# Altium schematic symbol library TI Power Management DC-DC Controller (External Switch).SchLib: 349 symbols (part 1 of 26)
Pins are listed as number, name and electrical type; pins without a type are passive.

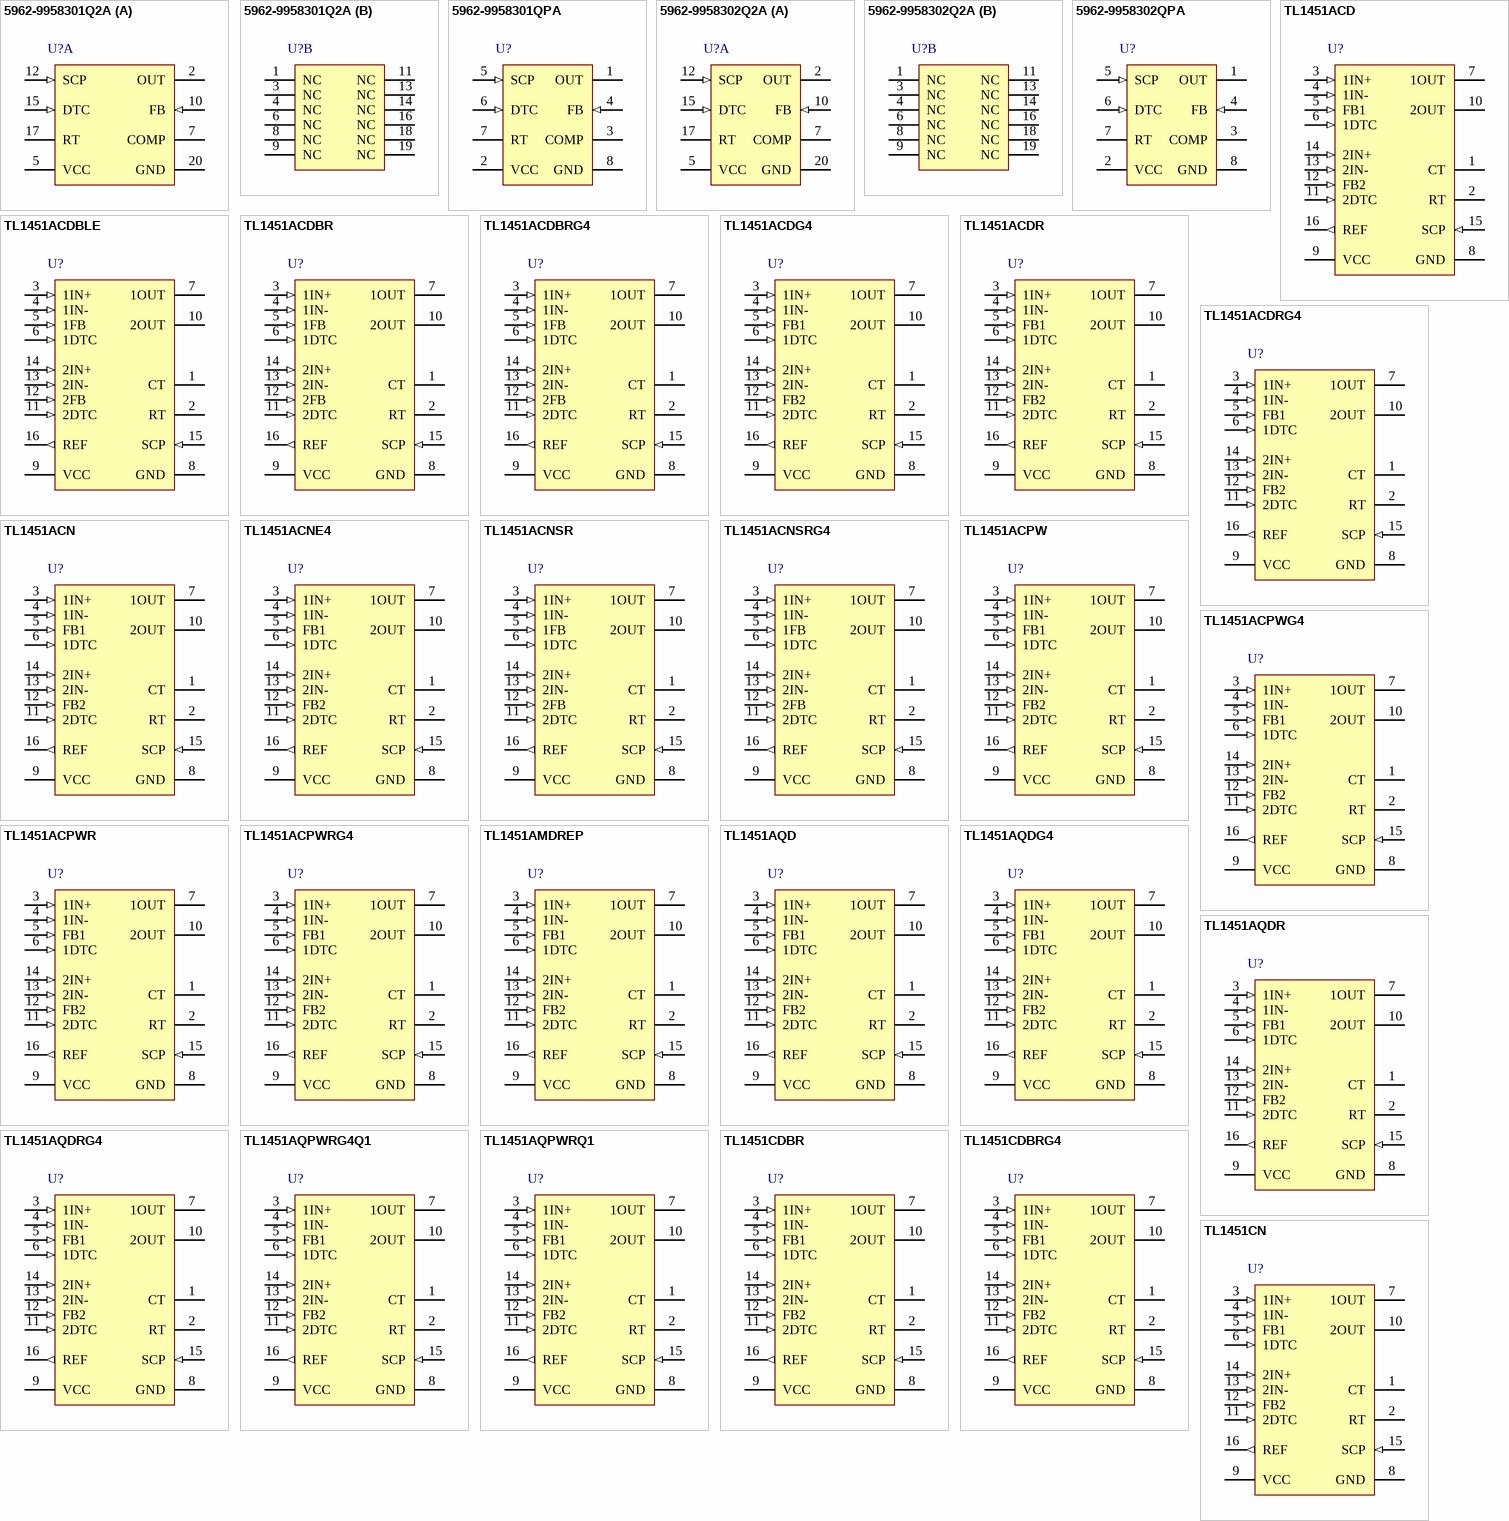
[diagram p0: symbols 5962-9958301Q2A to TL1451CN]

## 5962-9958301Q2A
designator U?
PWM Controller with Wide Input Range, 3.6 to 40 V, -55 to 125 degC, 20-pin LCCC (FK); Manufacturer: Texas Instruments; PartNumber: 5962-9958301Q2A; Duty Cycle(Max)(%): 0; Eco-Plan: TBD; Iout(Max)(A): 3; Regulated Outputs(#): 1; SubFamily: Buck-Boost, Inverting Switching Controller; Switching Frequency(Max)(kHz): 400; Synchronous Rectification: TRUE; Topology: Buck, Boost, Flyback; Vin(Max)(V): 40; Vin(Min)(V): 3.6; Vout(Max)(V): 50; DatasheetVersion: SLVS084F; PackageVersion: revD, Jan-2011; PackageReference: FK20; PackageDescription: 20-Pin Leadless Ceramic Chip Carrier, 1.27 mm Pitch; Vout(Min)(V): 1; Mounting Technology: Surface Mount; Code_JEDEC: MS-004; ComponentLink1Description: Datasheet; ComponentLink1URL: http://www.ti.com/general/docs/lit/getliterature.tsp?genericPartNumber=TL5001M&fileType=pdf; ComponentLink2Description: Package Specification; ComponentLink2URL: http://www.ti.com/litv/pdf/mlcc006d
footprint FK20_N (Leadless Chip Carrier, 20-Leads, Body 8.9x8.9mm, Pitch 1.27mm, IPC Medium Density)
footprint FK20_L (Leadless Chip Carrier, 20-Leads, Body 8.9x8.9mm, Pitch 1.27mm, IPC High Density)
footprint FK20_M (Leadless Chip Carrier, 20-Leads, Body 8.9x8.9mm, Pitch 1.27mm, IPC Low Density)
part A pins: 2 OUT (oc), 5 VCC (power), 7 COMP, 10 FB (in), 12 SCP (in), 15 DTC (in), 17 RT, 20 GND (power)
part B pins: 1 NC, 3 NC, 4 NC, 6 NC, 8 NC, 9 NC, 11 NC, 13 NC, 14 NC, 16 NC, 18 NC, 19 NC

## 5962-9958301QPA
designator U?
PWM Controller with Wide Input Range, 3.6 to 40 V, -55 to 125 degC, 8-pin CDIP (JG); Manufacturer: Texas Instruments; PartNumber: 5962-9958301QPA; Duty Cycle(Max)(%): 0; Eco-Plan: TBD; Iout(Max)(A): 3; Regulated Outputs(#): 1; SubFamily: Buck-Boost, Inverting Switching Controller; Switching Frequency(Max)(kHz): 400; Synchronous Rectification: TRUE; Topology: Buck, Boost, Flyback; Vin(Max)(V): 40; Vin(Min)(V): 3.6; Vout(Max)(V): 50; DatasheetVersion: SLVS084F; PackageVersion: revC, Aug-1996; PackageReference: JG8; PackageDescription: 8-Pin Ceramic Dual-In-Line Package, Row Spacing 7.62 mm, Pitch 2.54 mm; Vout(Min)(V): 1; Mounting Technology: Through Hole; ComponentLink1Description: Datasheet; ComponentLink1URL: http://www.ti.com/general/docs/lit/getliterature.tsp?genericPartNumber=TL5001M&fileType=pdf; ComponentLink2Description: Package Specification; ComponentLink2URL: http://www.ti.com/litv/pdf/mcer001a
footprint JG8 (DIP, 8-Leads, Row Spacing 7.62mm, Pitch 2.54mm, Body 9.6x6.7mm)
pins: 1 OUT (oc), 2 VCC (power), 3 COMP, 4 FB (in), 5 SCP (in), 6 DTC (in), 7 RT, 8 GND (power)

## 5962-9958302Q2A
designator U?
PWM Controller with Wide Input Voltage Range, 100 % Duty Cycle, 3.6 to 40 V, -55 to 125 degC, 20-pin LCCC (FK); Manufacturer: Texas Instruments; PartNumber: 5962-9958302Q2A; Duty Cycle(Max)(%): 100; Eco-Plan: TBD; Iout(Max)(A): 3; Regulated Outputs(#): 1; SubFamily: Buck-Boost, Inverting Switching Controller; Switching Frequency(Max)(kHz): 500; Synchronous Rectification: TRUE; Topology: Buck, Boost; Vin(Max)(V): 40; Vin(Min)(V): 3.6; Vout(Max)(V): 50; DatasheetVersion: SLVS084F; PackageVersion: revD, Jan-2011; PackageReference: FK20; PackageDescription: 20-Pin Leadless Ceramic Chip Carrier, 1.27 mm Pitch; Vout(Min)(V): 1; Mounting Technology: Surface Mount; Code_JEDEC: MS-004; ComponentLink1Description: Datasheet; ComponentLink1URL: http://www.ti.com/general/docs/lit/getliterature.tsp?genericPartNumber=TL5001AM&fileType=pdf; ComponentLink2Description: Package Specification; ComponentLink2URL: http://www.ti.com/litv/pdf/mlcc006d
footprint FK20_N (Leadless Chip Carrier, 20-Leads, Body 8.9x8.9mm, Pitch 1.27mm, IPC Medium Density)
footprint FK20_L (Leadless Chip Carrier, 20-Leads, Body 8.9x8.9mm, Pitch 1.27mm, IPC High Density)
footprint FK20_M (Leadless Chip Carrier, 20-Leads, Body 8.9x8.9mm, Pitch 1.27mm, IPC Low Density)
part A pins: 2 OUT (oc), 5 VCC (power), 7 COMP, 10 FB (in), 12 SCP (in), 15 DTC (in), 17 RT, 20 GND (power)
part B pins: 1 NC, 3 NC, 4 NC, 6 NC, 8 NC, 9 NC, 11 NC, 13 NC, 14 NC, 16 NC, 18 NC, 19 NC

## 5962-9958302QPA
designator U?
PWM Controller with Wide Input Voltage Range, 100 % Duty Cycle, 3.6 to 40 V, -55 to 125 degC, 8-pin CDIP (JG); Manufacturer: Texas Instruments; PartNumber: 5962-9958302QPA; Duty Cycle(Max)(%): 100; Eco-Plan: TBD; Iout(Max)(A): 3; Regulated Outputs(#): 1; SubFamily: Buck-Boost, Inverting Switching Controller; Switching Frequency(Max)(kHz): 500; Synchronous Rectification: TRUE; Topology: Buck, Boost; Vin(Max)(V): 40; Vin(Min)(V): 3.6; Vout(Max)(V): 50; DatasheetVersion: SLVS084F; PackageVersion: revC, Aug-1996; PackageReference: JG8; PackageDescription: 8-Pin Ceramic Dual-In-Line Package, Row Spacing 7.62 mm, Pitch 2.54 mm; Vout(Min)(V): 1; Mounting Technology: Through Hole; ComponentLink1Description: Datasheet; ComponentLink1URL: http://www.ti.com/general/docs/lit/getliterature.tsp?genericPartNumber=TL5001AM&fileType=pdf; ComponentLink2Description: Package Specification; ComponentLink2URL: http://www.ti.com/litv/pdf/mcer001a
footprint JG8 (DIP, 8-Leads, Row Spacing 7.62mm, Pitch 2.54mm, Body 9.6x6.7mm)
pins: 1 OUT (oc), 2 VCC (power), 3 COMP, 4 FB (in), 5 SCP (in), 6 DTC (in), 7 RT, 8 GND (power)

## TL1451ACD
designator U?
Dual Channel Controller with Wide Input Voltage Range, 100 % Duty Cycle, 3.6 to 50 V, -20 to 85 degC, 16-pin SOIC (D), Green (RoHS & no Sb/Br); Manufacturer: Texas Instruments; PartNumber: TL1451ACD; Duty Cycle(Max)(%): 100; Iout(Max)(A): 3; Regulated Outputs(#): 2; SubFamily: Multiple-Output Switching Controller; Switching Frequency(Max)(kHz): 500; Synchronous Rectification: TRUE; Topology: Buck, Boost, Flyback; Vin(Max)(V): 50; Vin(Min)(V): 3.6; Vout(Min)(V): 1; DatasheetVersion: SLVS024E; PackageVersion: revM, Jun-2011; PackageReference: D16; PackageDescription: 16-Pin Plastic Small Outline Integrated Circuit, 9.9 x 3.9 mm, Pitch 1.27 mm Pitch; Supplier 1: Digi-Key; Supplier Part Number 1: 296-13350-5-ND; Eco-Plan: Green (RoHS & no Sb/Br); Iout2(A): 3; Vout(Max)(V): 50; Vout2(Max)(V): 50; Vout2(Min)(V): 1; Mounting Technology: Surface Mount; Code_JEDEC: MS-012AC; ComponentLink1Description: Datasheet; ComponentLink1URL: http://www.ti.com/general/docs/lit/getliterature.tsp?genericPartNumber=TL1451A&fileType=pdf; ComponentLink2Description: Package Specification; ComponentLink2URL: http://www.ti.com/litv/pdf/mpds178g
footprint D16_N (SOIC, 16-Leads, Body 9.9x3.9mm, Pitch 1.27mm, IPC Medium Density)
footprint D16_L (SOIC, 16-Leads, Body 9.9x3.9mm, Pitch 1.27mm, IPC High Density)
footprint D16_M (SOIC, 16-Leads, Body 9.9x3.9mm, Pitch 1.27mm, IPC Low Density)
pins: 1 CT, 2 RT, 3 1IN+ (in), 4 1IN- (in), 5 FB1 (in), 6 1DTC (in), 7 1OUT (oc), 8 GND (power), 9 VCC (power), 10 2OUT (oc), 11 2DTC (in), 12 FB2 (in), 13 2IN- (in), 14 2IN+ (in), 15 SCP (in), 16 REF (out)

## TL1451ACDBLE
designator U?
Dual Channel Controller with Wide Input Voltage Range, 100 % Duty Cycle, 3.6 to 50 V, -20 to 85 degC, 16-pin SSOP (DB); Manufacturer: Texas Instruments; PartNumber: TL1451ACDBLE; Duty Cycle(Max)(%): 100; Iout(Max)(A): 3; Regulated Outputs(#): 2; SubFamily: Multiple-Output Switching Controller; Switching Frequency(Max)(kHz): 500; Synchronous Rectification: TRUE; Topology: Buck, Boost, Flyback; Vin(Max)(V): 50; Vin(Min)(V): 3.6; Vout(Min)(V): 1; DatasheetVersion: SLVS024E; PackageVersion: revE, Dec-2001; PackageReference: DB16; PackageDescription: 16-Pin Plastic Small Outline Package, 6.2 x 5.3 mm Body, 0.65 mm Pitch; Supplier 1: Mouser; Supplier Part Number 1: N/A; Iout2(A): 3; Vout(Max)(V): 50; Vout2(Max)(V): 50; Vout2(Min)(V): 1; Mounting Technology: Surface Mount; Code_JEDEC: MO-150; ComponentLink1Description: Datasheet; ComponentLink1URL: http://www.ti.com/general/docs/lit/getliterature.tsp?genericPartNumber=TL1451A&fileType=pdf; ComponentLink2Description: Package Specification; ComponentLink2URL: http://www.ti.com/litv/pdf/msso002e
footprint DB16_N (SOP, 16-Leads, Body 6.2x5.3mm, Pitch 0.65mm, IPC Medium Density)
footprint DB16_L (SOP, 16-Leads, Body 6.2x5.3mm, Pitch 0.65mm, IPC High Density)
footprint DB16_M (SOP, 16-Leads, Body 6.2x5.3mm, Pitch 0.65mm, IPC Low Density)
pins: 1 CT, 2 RT, 3 1IN+ (in), 4 1IN- (in), 5 1FB (in), 6 1DTC (in), 7 1OUT (oc), 8 GND (power), 9 VCC (power), 10 2OUT (oc), 11 2DTC (in), 12 2FB (in), 13 2IN- (in), 14 2IN+ (in), 15 SCP (in), 16 REF (out)

## TL1451ACDBR
designator U?
Dual Channel Controller with Wide Input Voltage Range, 100 % Duty Cycle, 3.6 to 50 V, -20 to 85 degC, 16-pin SSOP (DB), Green (RoHS & no Sb/Br); Manufacturer: Texas Instruments; PartNumber: TL1451ACDBR; Duty Cycle(Max)(%): 100; Iout(Max)(A): 3; Regulated Outputs(#): 2; SubFamily: Multiple-Output Switching Controller; Switching Frequency(Max)(kHz): 500; Synchronous Rectification: TRUE; Topology: Buck, Boost, Flyback; Vin(Max)(V): 50; Vin(Min)(V): 3.6; Vout(Min)(V): 1; DatasheetVersion: SLVS024E; PackageVersion: revE, Dec-2001; PackageReference: DB16; PackageDescription: 16-Pin Plastic Small Outline Package, 6.2 x 5.3 mm Body, 0.65 mm Pitch; Supplier 1: Digi-Key; Supplier Part Number 1: 296-10133-2-ND; Eco-Plan: Green (RoHS & no Sb/Br); Iout2(A): 3; Vout(Max)(V): 50; Vout2(Max)(V): 50; Vout2(Min)(V): 1; Mounting Technology: Surface Mount; Code_JEDEC: MO-150; ComponentLink1Description: Datasheet; ComponentLink1URL: http://www.ti.com/general/docs/lit/getliterature.tsp?genericPartNumber=TL1451A&fileType=pdf; ComponentLink2Description: Package Specification; ComponentLink2URL: http://www.ti.com/litv/pdf/msso002e
footprint DB16_N (SOP, 16-Leads, Body 6.2x5.3mm, Pitch 0.65mm, IPC Medium Density)
footprint DB16_L (SOP, 16-Leads, Body 6.2x5.3mm, Pitch 0.65mm, IPC High Density)
footprint DB16_M (SOP, 16-Leads, Body 6.2x5.3mm, Pitch 0.65mm, IPC Low Density)
pins: 1 CT, 2 RT, 3 1IN+ (in), 4 1IN- (in), 5 1FB (in), 6 1DTC (in), 7 1OUT (oc), 8 GND (power), 9 VCC (power), 10 2OUT (oc), 11 2DTC (in), 12 2FB (in), 13 2IN- (in), 14 2IN+ (in), 15 SCP (in), 16 REF (out)

## TL1451ACDBRG4
designator U?
Dual Channel Controller with Wide Input Voltage Range, 100 % Duty Cycle, 3.6 to 50 V, -20 to 85 degC, 16-pin SSOP (DB), Green (RoHS & no Sb/Br); Manufacturer: Texas Instruments; PartNumber: TL1451ACDBRG4; Duty Cycle(Max)(%): 100; Iout(Max)(A): 3; Regulated Outputs(#): 2; SubFamily: Multiple-Output Switching Controller; Switching Frequency(Max)(kHz): 500; Synchronous Rectification: TRUE; Topology: Buck, Boost, Flyback"; Vin(Max)(V): 50; Vin(Min)(V): 3.6; Vout(Min)(V): 1; DatasheetVersion: SLVS024E; PackageVersion: revE, Dec-2001; PackageReference: DB16; PackageDescription: 16-Pin Plastic Small Outline Package, 6.2 x 5.3 mm Body, 0.65 mm Pitch; Supplier 1: Digi-Key; Supplier Part Number 1: TL1451ACDBRG4-ND; Eco-Plan: Green (RoHS & no Sb/Br); Iout2(A): 3; Vout(Max)(V): 50; Vout2(Max)(V): 50; Vout2(Min)(V): 1; Mounting Technology: Surface Mount; Code_JEDEC: MO-150; ComponentLink1Description: Datasheet; ComponentLink1URL: http://www.ti.com/general/docs/lit/getliterature.tsp?genericPartNumber=TL1451A&fileType=pdf; ComponentLink2Description: Package Specification; ComponentLink2URL: http://www.ti.com/litv/pdf/msso002e
footprint DB16_N (SOP, 16-Leads, Body 6.2x5.3mm, Pitch 0.65mm, IPC Medium Density)
footprint DB16_L (SOP, 16-Leads, Body 6.2x5.3mm, Pitch 0.65mm, IPC High Density)
footprint DB16_M (SOP, 16-Leads, Body 6.2x5.3mm, Pitch 0.65mm, IPC Low Density)
pins: 1 CT, 2 RT, 3 1IN+ (in), 4 1IN- (in), 5 1FB (in), 6 1DTC (in), 7 1OUT (oc), 8 GND (power), 9 VCC (power), 10 2OUT (oc), 11 2DTC (in), 12 2FB (in), 13 2IN- (in), 14 2IN+ (in), 15 SCP (in), 16 REF (out)

## TL1451ACDG4
designator U?
Dual Channel Controller with Wide Input Voltage Range, 100 % Duty Cycle, 3.6 to 50 V, -20 to 85 degC, 16-pin SOIC (D), Green (RoHS & no Sb/Br); Manufacturer: Texas Instruments; PartNumber: TL1451ACDG4; Duty Cycle(Max)(%): 100; Iout(Max)(A): 3; Regulated Outputs(#): 2; SubFamily: Multiple-Output Switching Controller; Switching Frequency(Max)(kHz): 500; Synchronous Rectification: TRUE; Topology: Buck, Boost, Flyback; Vin(Max)(V): 50; Vin(Min)(V): 3.6; Vout(Min)(V): 1; DatasheetVersion: SLVS024E; PackageVersion: revM, Jun-2011; PackageReference: D16; PackageDescription: 16-Pin Plastic Small Outline Integrated Circuit, 9.9 x 3.9 mm, Pitch 1.27 mm Pitch; Supplier 1: Digi-Key; Supplier Part Number 1: TL1451ACDG4-ND; Eco-Plan: Green (RoHS & no Sb/Br); Iout2(A): 3; Vout(Max)(V): 50; Vout2(Max)(V): 50; Vout2(Min)(V): 1; Mounting Technology: Surface Mount; Code_JEDEC: MS-012AC; ComponentLink1Description: Datasheet; ComponentLink1URL: http://www.ti.com/general/docs/lit/getliterature.tsp?genericPartNumber=TL1451A&fileType=pdf; ComponentLink2Description: Package Specification; ComponentLink2URL: http://www.ti.com/litv/pdf/mpds178g
footprint D16_N (SOIC, 16-Leads, Body 9.9x3.9mm, Pitch 1.27mm, IPC Medium Density)
footprint D16_L (SOIC, 16-Leads, Body 9.9x3.9mm, Pitch 1.27mm, IPC High Density)
footprint D16_M (SOIC, 16-Leads, Body 9.9x3.9mm, Pitch 1.27mm, IPC Low Density)
pins: 1 CT, 2 RT, 3 1IN+ (in), 4 1IN- (in), 5 FB1 (in), 6 1DTC (in), 7 1OUT (oc), 8 GND (power), 9 VCC (power), 10 2OUT (oc), 11 2DTC (in), 12 FB2 (in), 13 2IN- (in), 14 2IN+ (in), 15 SCP (in), 16 REF (out)

## TL1451ACDR
designator U?
Dual Channel Controller with Wide Input Voltage Range, 100 % Duty Cycle, 3.6 to 50 V, -20 to 85 degC, 16-pin SOIC (D), Green (RoHS & no Sb/Br); Manufacturer: Texas Instruments; PartNumber: TL1451ACDR; Duty Cycle(Max)(%): 100; Iout(Max)(A): 3; Regulated Outputs(#): 2; SubFamily: Multiple-Output Switching Controller; Switching Frequency(Max)(kHz): 500; Synchronous Rectification: TRUE; Topology: Buck, Boost, Flyback"; Vin(Max)(V): 50; Vin(Min)(V): 3.6; Vout(Min)(V): 1; DatasheetVersion: SLVS024E; PackageVersion: revM, Jun-2011; PackageReference: D16; PackageDescription: 16-Pin Plastic Small Outline Integrated Circuit, 9.9 x 3.9 mm, Pitch 1.27 mm Pitch; Supplier 1: Digi-Key; Supplier Part Number 1: TL1451ACDR-ND; Eco-Plan: Green (RoHS & no Sb/Br); Iout2(A): 3; Vout(Max)(V): 50; Vout2(Max)(V): 50; Vout2(Min)(V): 1; Mounting Technology: Surface Mount; Code_JEDEC: MS-012AC; ComponentLink1Description: Datasheet; ComponentLink1URL: http://www.ti.com/general/docs/lit/getliterature.tsp?genericPartNumber=TL1451A&fileType=pdf; ComponentLink2Description: Package Specification; ComponentLink2URL: http://www.ti.com/litv/pdf/mpds178g
footprint D16_N (SOIC, 16-Leads, Body 9.9x3.9mm, Pitch 1.27mm, IPC Medium Density)
footprint D16_L (SOIC, 16-Leads, Body 9.9x3.9mm, Pitch 1.27mm, IPC High Density)
footprint D16_M (SOIC, 16-Leads, Body 9.9x3.9mm, Pitch 1.27mm, IPC Low Density)
pins: 1 CT, 2 RT, 3 1IN+ (in), 4 1IN- (in), 5 FB1 (in), 6 1DTC (in), 7 1OUT (oc), 8 GND (power), 9 VCC (power), 10 2OUT (oc), 11 2DTC (in), 12 FB2 (in), 13 2IN- (in), 14 2IN+ (in), 15 SCP (in), 16 REF (out)

## TL1451ACDRG4
designator U?
Dual Channel Controller with Wide Input Voltage Range, 100 % Duty Cycle, 3.6 to 50 V, -20 to 85 degC, 16-pin SOIC (D), Green (RoHS & no Sb/Br); Manufacturer: Texas Instruments; PartNumber: TL1451ACDRG4; Duty Cycle(Max)(%): 100; Iout(Max)(A): 3; Regulated Outputs(#): 2; SubFamily: Multiple-Output Switching Controller; Switching Frequency(Max)(kHz): 500; Synchronous Rectification: TRUE; Topology: Buck, Boost, Flyback; Vin(Max)(V): 50; Vin(Min)(V): 3.6; Vout(Min)(V): 1; DatasheetVersion: SLVS024E; PackageVersion: revM, Jun-2011; PackageReference: D16; PackageDescription: 16-Pin Plastic Small Outline Integrated Circuit, 9.9 x 3.9 mm, Pitch 1.27 mm Pitch; Supplier 1: Digi-Key; Supplier Part Number 1: TL1451ACDRG4-ND; Eco-Plan: Green (RoHS & no Sb/Br); Iout2(A): 3; Vout(Max)(V): 50; Vout2(Max)(V): 50; Vout2(Min)(V): 1; Mounting Technology: Surface Mount; Code_JEDEC: MS-012AC; ComponentLink1Description: Datasheet; ComponentLink1URL: http://www.ti.com/general/docs/lit/getliterature.tsp?genericPartNumber=TL1451A&fileType=pdf; ComponentLink2Description: Package Specification; ComponentLink2URL: http://www.ti.com/litv/pdf/mpds178g
footprint D16_N (SOIC, 16-Leads, Body 9.9x3.9mm, Pitch 1.27mm, IPC Medium Density)
footprint D16_L (SOIC, 16-Leads, Body 9.9x3.9mm, Pitch 1.27mm, IPC High Density)
footprint D16_M (SOIC, 16-Leads, Body 9.9x3.9mm, Pitch 1.27mm, IPC Low Density)
pins: 1 CT, 2 RT, 3 1IN+ (in), 4 1IN- (in), 5 FB1 (in), 6 1DTC (in), 7 1OUT (oc), 8 GND (power), 9 VCC (power), 10 2OUT (oc), 11 2DTC (in), 12 FB2 (in), 13 2IN- (in), 14 2IN+ (in), 15 SCP (in), 16 REF (out)

## TL1451ACN
designator U?
Dual Channel Controller with Wide Input Voltage Range, 100 % Duty Cycle, 3.6 to 50 V, -20 to 85 degC, 16-pin PDIP (N), Pb-Free (RoHS); Manufacturer: Texas Instruments; PartNumber: TL1451ACN; Duty Cycle(Max)(%): 100; Iout(Max)(A): 3; Regulated Outputs(#): 2; SubFamily: Multiple-Output Switching Controller; Switching Frequency(Max)(kHz): 500; Synchronous Rectification: TRUE; Topology: Buck, Boost, Flyback; Vin(Max)(V): 50; Vin(Min)(V): 3.6; Vout(Min)(V): 1; DatasheetVersion: SLVS024E; PackageVersion: revE, Dec-2002; PackageReference: N16; PackageDescription: 16-Pin Plastic Dual-In-Line Package, Row Spacing 7.62 mm, Pitch 2.54 mm; Supplier 1: Digi-Key; Supplier Part Number 1: 296-12197-5-ND; Eco-Plan: Pb-Free (RoHS); Iout2(A): 3; Vout(Max)(V): 50; Vout2(Max)(V): 50; Vout2(Min)(V): 1; Mounting Technology: Through Hole; Code_JEDEC: MS-001*; ComponentLink1Description: Datasheet; ComponentLink1URL: http://www.ti.com/general/docs/lit/getliterature.tsp?genericPartNumber=TL1451A&fileType=pdf; ComponentLink2Description: Package Specification; ComponentLink2URL: http://www.ti.com/litv/pdf/mpdi002c
footprint N16 (DIP, 16-Leads, Row Spacing 7.62mm, Pitch 2.54mm, Body 19.3x6.4mm)
pins: 1 CT, 2 RT, 3 1IN+ (in), 4 1IN- (in), 5 FB1 (in), 6 1DTC (in), 7 1OUT (oc), 8 GND (power), 9 VCC (power), 10 2OUT (oc), 11 2DTC (in), 12 FB2 (in), 13 2IN- (in), 14 2IN+ (in), 15 SCP (in), 16 REF (out)

## TL1451ACNE4
designator U?
Dual Channel Controller with Wide Input Voltage Range, 100 % Duty Cycle, 3.6 to 50 V, -20 to 85 degC, 16-pin PDIP (N), Pb-Free (RoHS); Manufacturer: Texas Instruments; PartNumber: TL1451ACNE4; Duty Cycle(Max)(%): 100; Iout(Max)(A): 3; Regulated Outputs(#): 2; SubFamily: Multiple-Output Switching Controller; Switching Frequency(Max)(kHz): 500; Synchronous Rectification: TRUE; Topology: Buck, Boost, Flyback"; Vin(Max)(V): 50; Vin(Min)(V): 3.6; Vout(Min)(V): 1; DatasheetVersion: SLVS024E; PackageVersion: revE, Dec-2002; PackageReference: N16; PackageDescription: 16-Pin Plastic Dual-In-Line Package, Row Spacing 7.62 mm, Pitch 2.54 mm; Supplier 1: Digi-Key; Supplier Part Number 1: TL1451ACNE4-ND; Eco-Plan: Pb-Free (RoHS); Iout2(A): 3; Vout(Max)(V): 50; Vout2(Max)(V): 50; Vout2(Min)(V): 1; Mounting Technology: Through Hole; Code_JEDEC: MS-001*; ComponentLink1Description: Datasheet; ComponentLink1URL: http://www.ti.com/general/docs/lit/getliterature.tsp?genericPartNumber=TL1451A&fileType=pdf; ComponentLink2Description: Package Specification; ComponentLink2URL: http://www.ti.com/litv/pdf/mpdi002c
footprint N16 (DIP, 16-Leads, Row Spacing 7.62mm, Pitch 2.54mm, Body 19.3x6.4mm)
pins: 1 CT, 2 RT, 3 1IN+ (in), 4 1IN- (in), 5 FB1 (in), 6 1DTC (in), 7 1OUT (oc), 8 GND (power), 9 VCC (power), 10 2OUT (oc), 11 2DTC (in), 12 FB2 (in), 13 2IN- (in), 14 2IN+ (in), 15 SCP (in), 16 REF (out)

## TL1451ACNSR
designator U?
Dual Channel Controller with Wide Input Voltage Range, 100 % Duty Cycle, 3.6 to 50 V, -20 to 85 degC, 16-pin SO (NS), Green (RoHS & no Sb/Br); Manufacturer: Texas Instruments; PartNumber: TL1451ACNSR; Duty Cycle(Max)(%): 100; Iout(Max)(A): 3; Regulated Outputs(#): 2; SubFamily: Multiple-Output Switching Controller; Switching Frequency(Max)(kHz): 500; Synchronous Rectification: TRUE; Topology: Buck, Boost, Flyback; Vin(Max)(V): 50; Vin(Min)(V): 3.6; Vout(Min)(V): 1; DatasheetVersion: SLVS024E; PackageVersion: revC, Mar-2003; PackageReference: NS16; PackageDescription: 16-Pin Plastic Small Outline Package, 10.2 x 5.3 mm, Pitch 1.27 mm Pitch; Supplier 1: Digi-Key; Supplier Part Number 1: 296-10134-2-ND; Eco-Plan: Green (RoHS & no Sb/Br); Iout2(A): 3; Vout(Max)(V): 50; Vout2(Max)(V): 50; Vout2(Min)(V): 1; Mounting Technology: Surface Mount; ComponentLink1Description: Datasheet; ComponentLink1URL: http://www.ti.com/general/docs/lit/getliterature.tsp?genericPartNumber=TL1451A&fileType=pdf; ComponentLink2Description: Package Specification; ComponentLink2URL: http://www.ti.com/litv/pdf/msop002a
footprint NS16_N (SOP, 16-Leads, Body 10.2x5.3mm, Pitch 1.27mm, IPC Medium Density)
footprint NS16_L (SOP, 16-Leads, Body 10.2x5.3mm, Pitch 1.27mm, IPC High Density)
footprint NS16_M (SOP, 16-Leads, Body 10.2x5.3mm, Pitch 1.27mm, IPC Low Density)
pins: 1 CT, 2 RT, 3 1IN+ (in), 4 1IN- (in), 5 1FB (in), 6 1DTC (in), 7 1OUT (oc), 8 GND (power), 9 VCC (power), 10 2OUT (oc), 11 2DTC (in), 12 2FB (in), 13 2IN- (in), 14 2IN+ (in), 15 SCP (in), 16 REF (out)

## TL1451ACNSRG4
designator U?
Dual Channel Controller with Wide Input Voltage Range, 100 % Duty Cycle, 3.6 to 50 V, -20 to 85 degC, 16-pin SO (NS), Green (RoHS & no Sb/Br); Manufacturer: Texas Instruments; PartNumber: TL1451ACNSRG4; Duty Cycle(Max)(%): 100; Iout(Max)(A): 3; Regulated Outputs(#): 2; SubFamily: Multiple-Output Switching Controller; Switching Frequency(Max)(kHz): 500; Synchronous Rectification: TRUE; Topology: Buck, Boost, Flyback"; Vin(Max)(V): 50; Vin(Min)(V): 3.6; Vout(Min)(V): 1; DatasheetVersion: SLVS024E; PackageVersion: revC, Mar-2003; PackageReference: NS16; PackageDescription: 16-Pin Plastic Small Outline Package, 10.2 x 5.3 mm, Pitch 1.27 mm Pitch; Supplier 1: Digi-Key; Supplier Part Number 1: TL1451ACNSRG4-ND; Eco-Plan: Green (RoHS & no Sb/Br); Iout2(A): 3; Vout(Max)(V): 50; Vout2(Max)(V): 50; Vout2(Min)(V): 1; Mounting Technology: Surface Mount; ComponentLink1Description: Datasheet; ComponentLink1URL: http://www.ti.com/general/docs/lit/getliterature.tsp?genericPartNumber=TL1451A&fileType=pdf; ComponentLink2Description: Package Specification; ComponentLink2URL: http://www.ti.com/litv/pdf/msop002a
footprint NS16_N (SOP, 16-Leads, Body 10.2x5.3mm, Pitch 1.27mm, IPC Medium Density)
footprint NS16_L (SOP, 16-Leads, Body 10.2x5.3mm, Pitch 1.27mm, IPC High Density)
footprint NS16_M (SOP, 16-Leads, Body 10.2x5.3mm, Pitch 1.27mm, IPC Low Density)
pins: 1 CT, 2 RT, 3 1IN+ (in), 4 1IN- (in), 5 1FB (in), 6 1DTC (in), 7 1OUT (oc), 8 GND (power), 9 VCC (power), 10 2OUT (oc), 11 2DTC (in), 12 2FB (in), 13 2IN- (in), 14 2IN+ (in), 15 SCP (in), 16 REF (out)

## TL1451ACPW
designator U?
Dual Channel Controller with Wide Input Voltage Range, 100 % Duty Cycle, 3.6 to 50 V, -20 to 85 degC, 16-pin TSSOP (PW), Green (RoHS & no Sb/Br); Manufacturer: Texas Instruments; PartNumber: TL1451ACPW; Duty Cycle(Max)(%): 100; Iout(Max)(A): 3; Regulated Outputs(#): 2; SubFamily: Multiple-Output Switching Controller; Switching Frequency(Max)(kHz): 500; Synchronous Rectification: TRUE; Topology: Buck, Boost, Flyback"; Vin(Max)(V): 50; Vin(Min)(V): 3.6; Vout(Min)(V): 1; DatasheetVersion: SLVS024E; PackageVersion: revG, Feb-2011; PackageReference: PW16; PackageDescription: 16-Pin Plastic Thin Small Outline Package 5 x 4.4 mm Body ,0.65 mm Pitch; Supplier 1: Digi-Key; Supplier Part Number 1: 296-34263-5-ND; Eco-Plan: Green (RoHS & no Sb/Br); Iout2(A): 3; Vout(Max)(V): 50; Vout2(Max)(V): 50; Vout2(Min)(V): 1; Mounting Technology: Surface Mount; Code_JEDEC: MO-153; ComponentLink1Description: Datasheet; ComponentLink1URL: http://www.ti.com/general/docs/lit/getliterature.tsp?genericPartNumber=TL1451A&fileType=pdf; ComponentLink2Description: Package Specification; ComponentLink2URL: http://www.ti.com/litv/pdf/mpds361
footprint PW16_N (TSOP, 16-Leads, Body 5x4.4mm, Pitch 0.65mm, IPC Medium Density)
footprint PW16_L (TSOP, 16-Leads, Body 5x4.4mm, Pitch 0.65mm, IPC High Density)
footprint PW16_M (TSOP, 16-Leads, Body 5x4.4mm, Pitch 0.65mm, IPC Low Density)
pins: 1 CT, 2 RT, 3 1IN+ (in), 4 1IN- (in), 5 FB1 (in), 6 1DTC (in), 7 1OUT (oc), 8 GND (power), 9 VCC (power), 10 2OUT (oc), 11 2DTC (in), 12 FB2 (in), 13 2IN- (in), 14 2IN+ (in), 15 SCP (in), 16 REF (out)

## TL1451ACPWG4
designator U?
Dual Channel Controller with Wide Input Voltage Range, 100 % Duty Cycle, 3.6 to 50 V, -20 to 85 degC, 16-pin TSSOP (PW), Green (RoHS & no Sb/Br); Manufacturer: Texas Instruments; PartNumber: TL1451ACPWG4; Duty Cycle(Max)(%): 100; Iout(Max)(A): 3; Regulated Outputs(#): 2; SubFamily: Multiple-Output Switching Controller; Switching Frequency(Max)(kHz): 500; Synchronous Rectification: TRUE; Topology: Buck, Boost, Flyback; Vin(Max)(V): 50; Vin(Min)(V): 3.6; Vout(Min)(V): 1; DatasheetVersion: SLVS024E; PackageVersion: revG, Feb-2011; PackageReference: PW16; PackageDescription: 16-Pin Plastic Thin Small Outline Package 5 x 4.4 mm Body ,0.65 mm Pitch; Supplier 1: Digi-Key; Supplier Part Number 1: TL1451ACPWG4-ND; Eco-Plan: Green (RoHS & no Sb/Br); Iout2(A): 3; Vout(Max)(V): 50; Vout2(Max)(V): 50; Vout2(Min)(V): 1; Mounting Technology: Surface Mount; Code_JEDEC: MO-153; ComponentLink1Description: Datasheet; ComponentLink1URL: http://www.ti.com/general/docs/lit/getliterature.tsp?genericPartNumber=TL1451A&fileType=pdf; ComponentLink2Description: Package Specification; ComponentLink2URL: http://www.ti.com/litv/pdf/mpds361
footprint PW16_N (TSOP, 16-Leads, Body 5x4.4mm, Pitch 0.65mm, IPC Medium Density)
footprint PW16_L (TSOP, 16-Leads, Body 5x4.4mm, Pitch 0.65mm, IPC High Density)
footprint PW16_M (TSOP, 16-Leads, Body 5x4.4mm, Pitch 0.65mm, IPC Low Density)
pins: 1 CT, 2 RT, 3 1IN+ (in), 4 1IN- (in), 5 FB1 (in), 6 1DTC (in), 7 1OUT (oc), 8 GND (power), 9 VCC (power), 10 2OUT (oc), 11 2DTC (in), 12 FB2 (in), 13 2IN- (in), 14 2IN+ (in), 15 SCP (in), 16 REF (out)

## TL1451ACPWR
designator U?
Dual Channel Controller with Wide Input Voltage Range, 100 % Duty Cycle, 3.6 to 50 V, -20 to 85 degC, 16-pin TSSOP (PW), Green (RoHS & no Sb/Br); Manufacturer: Texas Instruments; PartNumber: TL1451ACPWR; Duty Cycle(Max)(%): 100; Iout(Max)(A): 3; Regulated Outputs(#): 2; SubFamily: Multiple-Output Switching Controller; Switching Frequency(Max)(kHz): 500; Synchronous Rectification: TRUE; Topology: Buck, Boost, Flyback; Vin(Max)(V): 50; Vin(Min)(V): 3.6; Vout(Min)(V): 1; DatasheetVersion: SLVS024E; PackageVersion: revG, Feb-2011; PackageReference: PW16; PackageDescription: 16-Pin Plastic Thin Small Outline Package 5 x 4.4 mm Body ,0.65 mm Pitch; Supplier 1: Digi-Key; Supplier Part Number 1: 296-10135-2-ND; Eco-Plan: Green (RoHS & no Sb/Br); Iout2(A): 3; Vout(Max)(V): 50; Vout2(Max)(V): 50; Vout2(Min)(V): 1; Mounting Technology: Surface Mount; Code_JEDEC: MO-153; ComponentLink1Description: Datasheet; ComponentLink1URL: http://www.ti.com/general/docs/lit/getliterature.tsp?genericPartNumber=TL1451A&fileType=pdf; ComponentLink2Description: Package Specification; ComponentLink2URL: http://www.ti.com/litv/pdf/mpds361
footprint PW16_N (TSOP, 16-Leads, Body 5x4.4mm, Pitch 0.65mm, IPC Medium Density)
footprint PW16_L (TSOP, 16-Leads, Body 5x4.4mm, Pitch 0.65mm, IPC High Density)
footprint PW16_M (TSOP, 16-Leads, Body 5x4.4mm, Pitch 0.65mm, IPC Low Density)
pins: 1 CT, 2 RT, 3 1IN+ (in), 4 1IN- (in), 5 FB1 (in), 6 1DTC (in), 7 1OUT (oc), 8 GND (power), 9 VCC (power), 10 2OUT (oc), 11 2DTC (in), 12 FB2 (in), 13 2IN- (in), 14 2IN+ (in), 15 SCP (in), 16 REF (out)

## TL1451ACPWRG4
designator U?
Dual Channel Controller with Wide Input Voltage Range, 100 % Duty Cycle, 3.6 to 50 V, -20 to 85 degC, 16-pin TSSOP (PW), Green (RoHS & no Sb/Br); Manufacturer: Texas Instruments; PartNumber: TL1451ACPWRG4; Duty Cycle(Max)(%): 100; Iout(Max)(A): 3; Regulated Outputs(#): 2; SubFamily: Multiple-Output Switching Controller; Switching Frequency(Max)(kHz): 500; Synchronous Rectification: TRUE; Topology: Buck, Boost, Flyback"; Vin(Max)(V): 50; Vin(Min)(V): 3.6; Vout(Min)(V): 1; DatasheetVersion: SLVS024E; PackageVersion: revG, Feb-2011; PackageReference: PW16; PackageDescription: 16-Pin Plastic Thin Small Outline Package 5 x 4.4 mm Body ,0.65 mm Pitch; Supplier 1: Digi-Key; Supplier Part Number 1: TL1451ACPWRG4-ND; Eco-Plan: Green (RoHS & no Sb/Br); Iout2(A): 3; Vout(Max)(V): 50; Vout2(Max)(V): 50; Vout2(Min)(V): 1; Mounting Technology: Surface Mount; Code_JEDEC: MO-153; ComponentLink1Description: Datasheet; ComponentLink1URL: http://www.ti.com/general/docs/lit/getliterature.tsp?genericPartNumber=TL1451A&fileType=pdf; ComponentLink2Description: Package Specification; ComponentLink2URL: http://www.ti.com/litv/pdf/mpds361
footprint PW16_N (TSOP, 16-Leads, Body 5x4.4mm, Pitch 0.65mm, IPC Medium Density)
footprint PW16_L (TSOP, 16-Leads, Body 5x4.4mm, Pitch 0.65mm, IPC High Density)
footprint PW16_M (TSOP, 16-Leads, Body 5x4.4mm, Pitch 0.65mm, IPC Low Density)
pins: 1 CT, 2 RT, 3 1IN+ (in), 4 1IN- (in), 5 FB1 (in), 6 1DTC (in), 7 1OUT (oc), 8 GND (power), 9 VCC (power), 10 2OUT (oc), 11 2DTC (in), 12 FB2 (in), 13 2IN- (in), 14 2IN+ (in), 15 SCP (in), 16 REF (out)

## TL1451AMDREP
designator U?
Enhanced Product Dual Pulse-Width-Modulation Control Circuit, 100 % Duty Cycle, 3.6 to 50 V, -55 to 125 degC, 16-pin SOIC (D), Green (RoHS & no Sb/Br); Manufacturer: Texas Instruments; PartNumber: TL1451AMDREP; Duty Cycle(Max)(%): 100; Iout(Max)(A): 3; Regulated Outputs(#): 2; SubFamily: Multiple-Output Switching Controller; Switching Frequency(Max)(kHz): 500; Topology: Buck, Boost, Flyback; Vin(Max)(V): 50; Vin(Min)(V): 3.6; Vout(Min)(V): 1; DatasheetVersion: SLVS614; PackageVersion: revM, Jun-2011; PackageReference: D16; PackageDescription: 16-Pin Plastic Small Outline Integrated Circuit, 9.9 x 3.9 mm, Pitch 1.27 mm Pitch; Supplier 1: Digi-Key; Supplier Part Number 1: 296-19511-2-ND; Eco-Plan: Green (RoHS & no Sb/Br); Iout2(A): 3; Vout(Max)(V): 50; Vout2(Max)(V): 50; Vout2(Min)(V): 1; Mounting Technology: Surface Mount; Code_JEDEC: MS-012AC; ComponentLink1Description: Datasheet; ComponentLink1URL: http://www.ti.com/general/docs/lit/getliterature.tsp?genericPartNumber=TL1451A-EP&fileType=pdf; ComponentLink2Description: Package Specification; ComponentLink2URL: http://www.ti.com/litv/pdf/mpds178g
footprint D16_N (SOIC, 16-Leads, Body 9.9x3.9mm, Pitch 1.27mm, IPC Medium Density)
footprint D16_L (SOIC, 16-Leads, Body 9.9x3.9mm, Pitch 1.27mm, IPC High Density)
footprint D16_M (SOIC, 16-Leads, Body 9.9x3.9mm, Pitch 1.27mm, IPC Low Density)
pins: 1 CT, 2 RT, 3 1IN+ (in), 4 1IN- (in), 5 FB1 (in), 6 1DTC (in), 7 1OUT (oc), 8 GND (power), 9 VCC (power), 10 2OUT (oc), 11 2DTC (in), 12 FB2 (in), 13 2IN- (in), 14 2IN+ (in), 15 SCP (in), 16 REF (out)

## TL1451AQD
designator U?
Dual Channel Controller with Wide Input Voltage Range, 100 % Duty Cycle, 3.6 to 50 V, -40 to 125 degC, 16-pin SOIC (D), Green (RoHS & no Sb/Br); Manufacturer: Texas Instruments; PartNumber: TL1451AQD; Duty Cycle(Max)(%): 100; Eco-Plan: TBD; Iout(Max)(A): 3; Regulated Outputs(#): 2; SubFamily: Multiple-Output Switching Controller; Switching Frequency(Max)(kHz): 500; Synchronous Rectification: TRUE; Topology: Buck, Boost, Flyback"; Vin(Max)(V): 50; Vin(Min)(V): 3.6; Vout(Min)(V): 1; DatasheetVersion: SLVS024E; PackageVersion: revM, Jun-2011; PackageReference: D16; PackageDescription: 16-Pin Plastic Small Outline Integrated Circuit, 9.9 x 3.9 mm, Pitch 1.27 mm Pitch; Supplier 1: Digi-Key; Supplier Part Number 1: 296-10137-5-ND; Iout2(A): 3; Vout(Max)(V): 50; Vout2(Max)(V): 50; Vout2(Min)(V): 1; Mounting Technology: Surface Mount; Code_JEDEC: MS-012AC; ComponentLink1Description: Datasheet; ComponentLink1URL: http://www.ti.com/general/docs/lit/getliterature.tsp?genericPartNumber=TL1451A&fileType=pdf; ComponentLink2Description: Package Specification; ComponentLink2URL: http://www.ti.com/litv/pdf/mpds178g
footprint D16_N (SOIC, 16-Leads, Body 9.9x3.9mm, Pitch 1.27mm, IPC Medium Density)
footprint D16_L (SOIC, 16-Leads, Body 9.9x3.9mm, Pitch 1.27mm, IPC High Density)
footprint D16_M (SOIC, 16-Leads, Body 9.9x3.9mm, Pitch 1.27mm, IPC Low Density)
pins: 1 CT, 2 RT, 3 1IN+ (in), 4 1IN- (in), 5 FB1 (in), 6 1DTC (in), 7 1OUT (oc), 8 GND (power), 9 VCC (power), 10 2OUT (oc), 11 2DTC (in), 12 FB2 (in), 13 2IN- (in), 14 2IN+ (in), 15 SCP (in), 16 REF (out)

## TL1451AQDG4
designator U?
Dual Channel Controller with Wide Input Voltage Range, 100 % Duty Cycle, 3.6 to 50 V, 16-pin SOIC (D), Green (RoHS & no Sb/Br); Manufacturer: Texas Instruments; PartNumber: TL1451AQDG4; Duty Cycle(Max)(%): 100; Iout(Max)(A): 3; Regulated Outputs(#): 2; SubFamily: Multiple-Output Switching Controller; Switching Frequency(Max)(kHz): 500; Synchronous Rectification: TRUE; Topology: Buck, Boost, Flyback"; Vin(Max)(V): 50; Vin(Min)(V): 3.6; Vout(Min)(V): 1; DatasheetVersion: SLVS024E; PackageVersion: revM, Jun-2011; PackageReference: D16; PackageDescription: 16-Pin Plastic Small Outline Integrated Circuit, 9.9 x 3.9 mm, Pitch 1.27 mm Pitch; Supplier 1: Digi-Key; Supplier Part Number 1: TL1451AQDG4-ND; Eco-Plan: Green (RoHS & no Sb/Br); Iout2(A): 3; Vout(Max)(V): 50; Vout2(Max)(V): 50; Vout2(Min)(V): 1; Mounting Technology: Surface Mount; Code_JEDEC: MS-012AC; ComponentLink1Description: Datasheet; ComponentLink1URL: http://www.ti.com/general/docs/lit/getliterature.tsp?genericPartNumber=TL1451A&fileType=pdf; ComponentLink2Description: Package Specification; ComponentLink2URL: http://www.ti.com/litv/pdf/mpds178g
footprint D16_N (SOIC, 16-Leads, Body 9.9x3.9mm, Pitch 1.27mm, IPC Medium Density)
footprint D16_L (SOIC, 16-Leads, Body 9.9x3.9mm, Pitch 1.27mm, IPC High Density)
footprint D16_M (SOIC, 16-Leads, Body 9.9x3.9mm, Pitch 1.27mm, IPC Low Density)
pins: 1 CT, 2 RT, 3 1IN+ (in), 4 1IN- (in), 5 FB1 (in), 6 1DTC (in), 7 1OUT (oc), 8 GND (power), 9 VCC (power), 10 2OUT (oc), 11 2DTC (in), 12 FB2 (in), 13 2IN- (in), 14 2IN+ (in), 15 SCP (in), 16 REF (out)

## TL1451AQDR
designator U?
Dual Channel Controller with Wide Input Voltage Range, 100 % Duty Cycle, 3.6 to 50 V, -40 to 125 degC, 16-pin SOIC (D), Green (RoHS & no Sb/Br); Manufacturer: Texas Instruments; PartNumber: TL1451AQDR; Duty Cycle(Max)(%): 100; Eco-Plan: TBD; Iout(Max)(A): 3; Regulated Outputs(#): 2; SubFamily: Multiple-Output Switching Controller; Switching Frequency(Max)(kHz): 500; Synchronous Rectification: TRUE; Topology: Buck, Boost, Flyback"; Vin(Max)(V): 50; Vin(Min)(V): 3.6; Vout(Min)(V): 1; DatasheetVersion: SLVS024E; PackageVersion: revM, Jun-2011; PackageReference: D16; PackageDescription: 16-Pin Plastic Small Outline Integrated Circuit, 9.9 x 3.9 mm, Pitch 1.27 mm Pitch; Supplier 1: Digi-Key; Supplier Part Number 1: TL1451AQDR-ND; Iout2(A): 3; Vout(Max)(V): 50; Vout2(Max)(V): 50; Vout2(Min)(V): 1; Mounting Technology: Surface Mount; Code_JEDEC: MS-012AC; ComponentLink1Description: Datasheet; ComponentLink1URL: http://www.ti.com/general/docs/lit/getliterature.tsp?genericPartNumber=TL1451A&fileType=pdf; ComponentLink2Description: Package Specification; ComponentLink2URL: http://www.ti.com/litv/pdf/mpds178g
footprint D16_N (SOIC, 16-Leads, Body 9.9x3.9mm, Pitch 1.27mm, IPC Medium Density)
footprint D16_L (SOIC, 16-Leads, Body 9.9x3.9mm, Pitch 1.27mm, IPC High Density)
footprint D16_M (SOIC, 16-Leads, Body 9.9x3.9mm, Pitch 1.27mm, IPC Low Density)
pins: 1 CT, 2 RT, 3 1IN+ (in), 4 1IN- (in), 5 FB1 (in), 6 1DTC (in), 7 1OUT (oc), 8 GND (power), 9 VCC (power), 10 2OUT (oc), 11 2DTC (in), 12 FB2 (in), 13 2IN- (in), 14 2IN+ (in), 15 SCP (in), 16 REF (out)

## TL1451AQDRG4
designator U?
Dual Channel Controller with Wide Input Voltage Range, 100 % Duty Cycle, 3.6 to 50 V, 16-pin SOIC (D), Green (RoHS & no Sb/Br); Manufacturer: Texas Instruments; PartNumber: TL1451AQDRG4; Duty Cycle(Max)(%): 100; Iout(Max)(A): 3; Regulated Outputs(#): 2; SubFamily: Multiple-Output Switching Controller; Switching Frequency(Max)(kHz): 500; Synchronous Rectification: TRUE; Topology: Buck, Boost, Flyback"; Vin(Max)(V): 50; Vin(Min)(V): 3.6; Vout(Min)(V): 1; DatasheetVersion: SLVS024E; PackageVersion: revM, Jun-2011; PackageReference: D16; PackageDescription: 16-Pin Plastic Small Outline Integrated Circuit, 9.9 x 3.9 mm, Pitch 1.27 mm Pitch; Supplier 1: Digi-Key; Supplier Part Number 1: TL1451AQDRG4-ND; Eco-Plan: Green (RoHS & no Sb/Br); Iout2(A): 3; Vout(Max)(V): 50; Vout2(Max)(V): 50; Vout2(Min)(V): 1; Mounting Technology: Surface Mount; Code_JEDEC: MS-012AC; ComponentLink1Description: Datasheet; ComponentLink1URL: http://www.ti.com/general/docs/lit/getliterature.tsp?genericPartNumber=TL1451A&fileType=pdf; ComponentLink2Description: Package Specification; ComponentLink2URL: http://www.ti.com/litv/pdf/mpds178g
footprint D16_N (SOIC, 16-Leads, Body 9.9x3.9mm, Pitch 1.27mm, IPC Medium Density)
footprint D16_L (SOIC, 16-Leads, Body 9.9x3.9mm, Pitch 1.27mm, IPC High Density)
footprint D16_M (SOIC, 16-Leads, Body 9.9x3.9mm, Pitch 1.27mm, IPC Low Density)
pins: 1 CT, 2 RT, 3 1IN+ (in), 4 1IN- (in), 5 FB1 (in), 6 1DTC (in), 7 1OUT (oc), 8 GND (power), 9 VCC (power), 10 2OUT (oc), 11 2DTC (in), 12 FB2 (in), 13 2IN- (in), 14 2IN+ (in), 15 SCP (in), 16 REF (out)

## TL1451AQPWRG4Q1
designator U?
Automotive Catalog Dual Pulse-Width-Modulation Control Circuit, 100 % Duty Cycle, -40 to 125 degC, 16-pin TSSOP (PW), Green (RoHS & no Sb/Br); Manufacturer: Texas Instruments; PartNumber: TL1451AQPWRG4Q1; Duty Cycle(Max)(%): 100; Regulated Outputs(#): 2; SubFamily: Multiple-Output Switching Controller; Topology: Buck, Boost, Flyback"; DatasheetVersion: SGLS304A; PackageVersion: revG, Feb-2011; PackageReference: PW16; PackageDescription: 16-Pin Plastic Thin Small Outline Package 5 x 4.4 mm Body ,0.65 mm Pitch; Supplier 1: Digi-Key; Supplier Part Number 1: 296-24757-2-ND; Eco-Plan: Green (RoHS & no Sb/Br); Mounting Technology: Surface Mount; Code_JEDEC: MO-153; ComponentLink1Description: Datasheet; ComponentLink1URL: http://www.ti.com/general/docs/lit/getliterature.tsp?genericPartNumber=TL1451A-Q1&fileType=pdf; ComponentLink2Description: Package Specification; ComponentLink2URL: http://www.ti.com/litv/pdf/mpds361
footprint PW16_N (TSOP, 16-Leads, Body 5x4.4mm, Pitch 0.65mm, IPC Medium Density)
footprint PW16_L (TSOP, 16-Leads, Body 5x4.4mm, Pitch 0.65mm, IPC High Density)
footprint PW16_M (TSOP, 16-Leads, Body 5x4.4mm, Pitch 0.65mm, IPC Low Density)
pins: 1 CT, 2 RT, 3 1IN+ (in), 4 1IN- (in), 5 FB1 (in), 6 1DTC (in), 7 1OUT (oc), 8 GND (power), 9 VCC (power), 10 2OUT (oc), 11 2DTC (in), 12 FB2 (in), 13 2IN- (in), 14 2IN+ (in), 15 SCP (in), 16 REF (out)

## TL1451AQPWRQ1
designator U?
Automotive Catalog Dual Pulse-Width-Modulation Control Circuit, 100 % Duty Cycle, -40 to 125 degC, 16-pin TSSOP (PW), Green (RoHS & no Sb/Br); Manufacturer: Texas Instruments; PartNumber: TL1451AQPWRQ1; Duty Cycle(Max)(%): 100; Regulated Outputs(#): 2; SubFamily: Multiple-Output Switching Controller; Topology: Buck, Boost, Flyback"; DatasheetVersion: SGLS304A; PackageVersion: revG, Feb-2011; PackageReference: PW16; PackageDescription: 16-Pin Plastic Thin Small Outline Package 5 x 4.4 mm Body ,0.65 mm Pitch; Supplier 1: Digi-Key; Supplier Part Number 1: 296-18659-2-ND; Eco-Plan: Green (RoHS & no Sb/Br); Mounting Technology: Surface Mount; Code_JEDEC: MO-153; ComponentLink1Description: Datasheet; ComponentLink1URL: http://www.ti.com/general/docs/lit/getliterature.tsp?genericPartNumber=TL1451A-Q1&fileType=pdf; ComponentLink2Description: Package Specification; ComponentLink2URL: http://www.ti.com/litv/pdf/mpds361
footprint PW16_N (TSOP, 16-Leads, Body 5x4.4mm, Pitch 0.65mm, IPC Medium Density)
footprint PW16_L (TSOP, 16-Leads, Body 5x4.4mm, Pitch 0.65mm, IPC High Density)
footprint PW16_M (TSOP, 16-Leads, Body 5x4.4mm, Pitch 0.65mm, IPC Low Density)
pins: 1 CT, 2 RT, 3 1IN+ (in), 4 1IN- (in), 5 FB1 (in), 6 1DTC (in), 7 1OUT (oc), 8 GND (power), 9 VCC (power), 10 2OUT (oc), 11 2DTC (in), 12 FB2 (in), 13 2IN- (in), 14 2IN+ (in), 15 SCP (in), 16 REF (out)

## TL1451CDBR
designator U?
Dual Pulse-Width-Modulation Control Circuit, 16-pin SSOP (DB), Green (RoHS & no Sb/Br); Manufacturer: Texas Instruments; PartNumber: TL1451CDBR; SubFamily: Multiple-Output Switching Controller; DatasheetVersion: SLVS024E; PackageVersion: revE, Dec-2001; PackageReference: DB16; PackageDescription: 16-Pin Plastic Small Outline Package, 6.2 x 5.3 mm Body, 0.65 mm Pitch; Supplier 1: Digi-Key; Supplier Part Number 1: TL1451CDBR-ND; Eco-Plan: Green (RoHS & no Sb/Br); Mounting Technology: Surface Mount; Code_JEDEC: MO-150; ComponentLink1Description: Datasheet; ComponentLink1URL: http://www.ti.com/general/docs/lit/getliterature.tsp?genericPartNumber=TL1451&fileType=pdf; ComponentLink2Description: Package Specification; ComponentLink2URL: http://www.ti.com/litv/pdf/msso002e
footprint DB16_N (SOP, 16-Leads, Body 6.2x5.3mm, Pitch 0.65mm, IPC Medium Density)
footprint DB16_L (SOP, 16-Leads, Body 6.2x5.3mm, Pitch 0.65mm, IPC High Density)
footprint DB16_M (SOP, 16-Leads, Body 6.2x5.3mm, Pitch 0.65mm, IPC Low Density)
pins: 1 CT, 2 RT, 3 1IN+ (in), 4 1IN- (in), 5 FB1 (in), 6 1DTC (in), 7 1OUT (oc), 8 GND (power), 9 VCC (power), 10 2OUT (oc), 11 2DTC (in), 12 FB2 (in), 13 2IN- (in), 14 2IN+ (in), 15 SCP (in), 16 REF (out)

## TL1451CDBRG4
designator U?
Dual Pulse-Width-Modulation Control Circuit, 16-pin SSOP (DB), Green (RoHS & no Sb/Br); Manufacturer: Texas Instruments; PartNumber: TL1451CDBRG4; SubFamily: Multiple-Output Switching Controller; DatasheetVersion: SLVS024E; PackageVersion: revE, Dec-2001; PackageReference: DB16; PackageDescription: 16-Pin Plastic Small Outline Package, 6.2 x 5.3 mm Body, 0.65 mm Pitch; Supplier 1: Digi-Key; Supplier Part Number 1: TL1451CDBRG4-ND; Eco-Plan: Green (RoHS & no Sb/Br); Mounting Technology: Surface Mount; Code_JEDEC: MO-150; ComponentLink1Description: Datasheet; ComponentLink1URL: http://www.ti.com/general/docs/lit/getliterature.tsp?genericPartNumber=TL1451&fileType=pdf; ComponentLink2Description: Package Specification; ComponentLink2URL: http://www.ti.com/litv/pdf/msso002e
footprint DB16_N (SOP, 16-Leads, Body 6.2x5.3mm, Pitch 0.65mm, IPC Medium Density)
footprint DB16_L (SOP, 16-Leads, Body 6.2x5.3mm, Pitch 0.65mm, IPC High Density)
footprint DB16_M (SOP, 16-Leads, Body 6.2x5.3mm, Pitch 0.65mm, IPC Low Density)
pins: 1 CT, 2 RT, 3 1IN+ (in), 4 1IN- (in), 5 FB1 (in), 6 1DTC (in), 7 1OUT (oc), 8 GND (power), 9 VCC (power), 10 2OUT (oc), 11 2DTC (in), 12 FB2 (in), 13 2IN- (in), 14 2IN+ (in), 15 SCP (in), 16 REF (out)

## TL1451CN
designator U?
Dual Pulse-Width-Modulation Control Circuit, 16-pin PDIP (N), Pb-Free (RoHS); Manufacturer: Texas Instruments; PartNumber: TL1451CN; SubFamily: Multiple-Output Switching Controller; DatasheetVersion: SLVS024E; PackageVersion: revE, Dec-2001; PackageReference: DB16; PackageDescription: 16-Pin Plastic Small Outline Package, 6.2 x 5.3 mm Body, 0.65 mm Pitch; Supplier 1: Digi-Key; Supplier Part Number 1: TL1451CN-ND; Eco-Plan: Pb-Free (RoHS); Mounting Technology: Surface Mount; Code_JEDEC: MO-150; ComponentLink1Description: Datasheet; ComponentLink1URL: http://www.ti.com/general/docs/lit/getliterature.tsp?genericPartNumber=TL1451&fileType=pdf; ComponentLink2Description: Package Specification; ComponentLink2URL: http://www.ti.com/litv/pdf/msso002e
footprint DB16_N (SOP, 16-Leads, Body 6.2x5.3mm, Pitch 0.65mm, IPC Medium Density)
footprint DB16_L (SOP, 16-Leads, Body 6.2x5.3mm, Pitch 0.65mm, IPC High Density)
footprint DB16_M (SOP, 16-Leads, Body 6.2x5.3mm, Pitch 0.65mm, IPC Low Density)
pins: 1 CT, 2 RT, 3 1IN+ (in), 4 1IN- (in), 5 FB1 (in), 6 1DTC (in), 7 1OUT (oc), 8 GND (power), 9 VCC (power), 10 2OUT (oc), 11 2DTC (in), 12 FB2 (in), 13 2IN- (in), 14 2IN+ (in), 15 SCP (in), 16 REF (out)

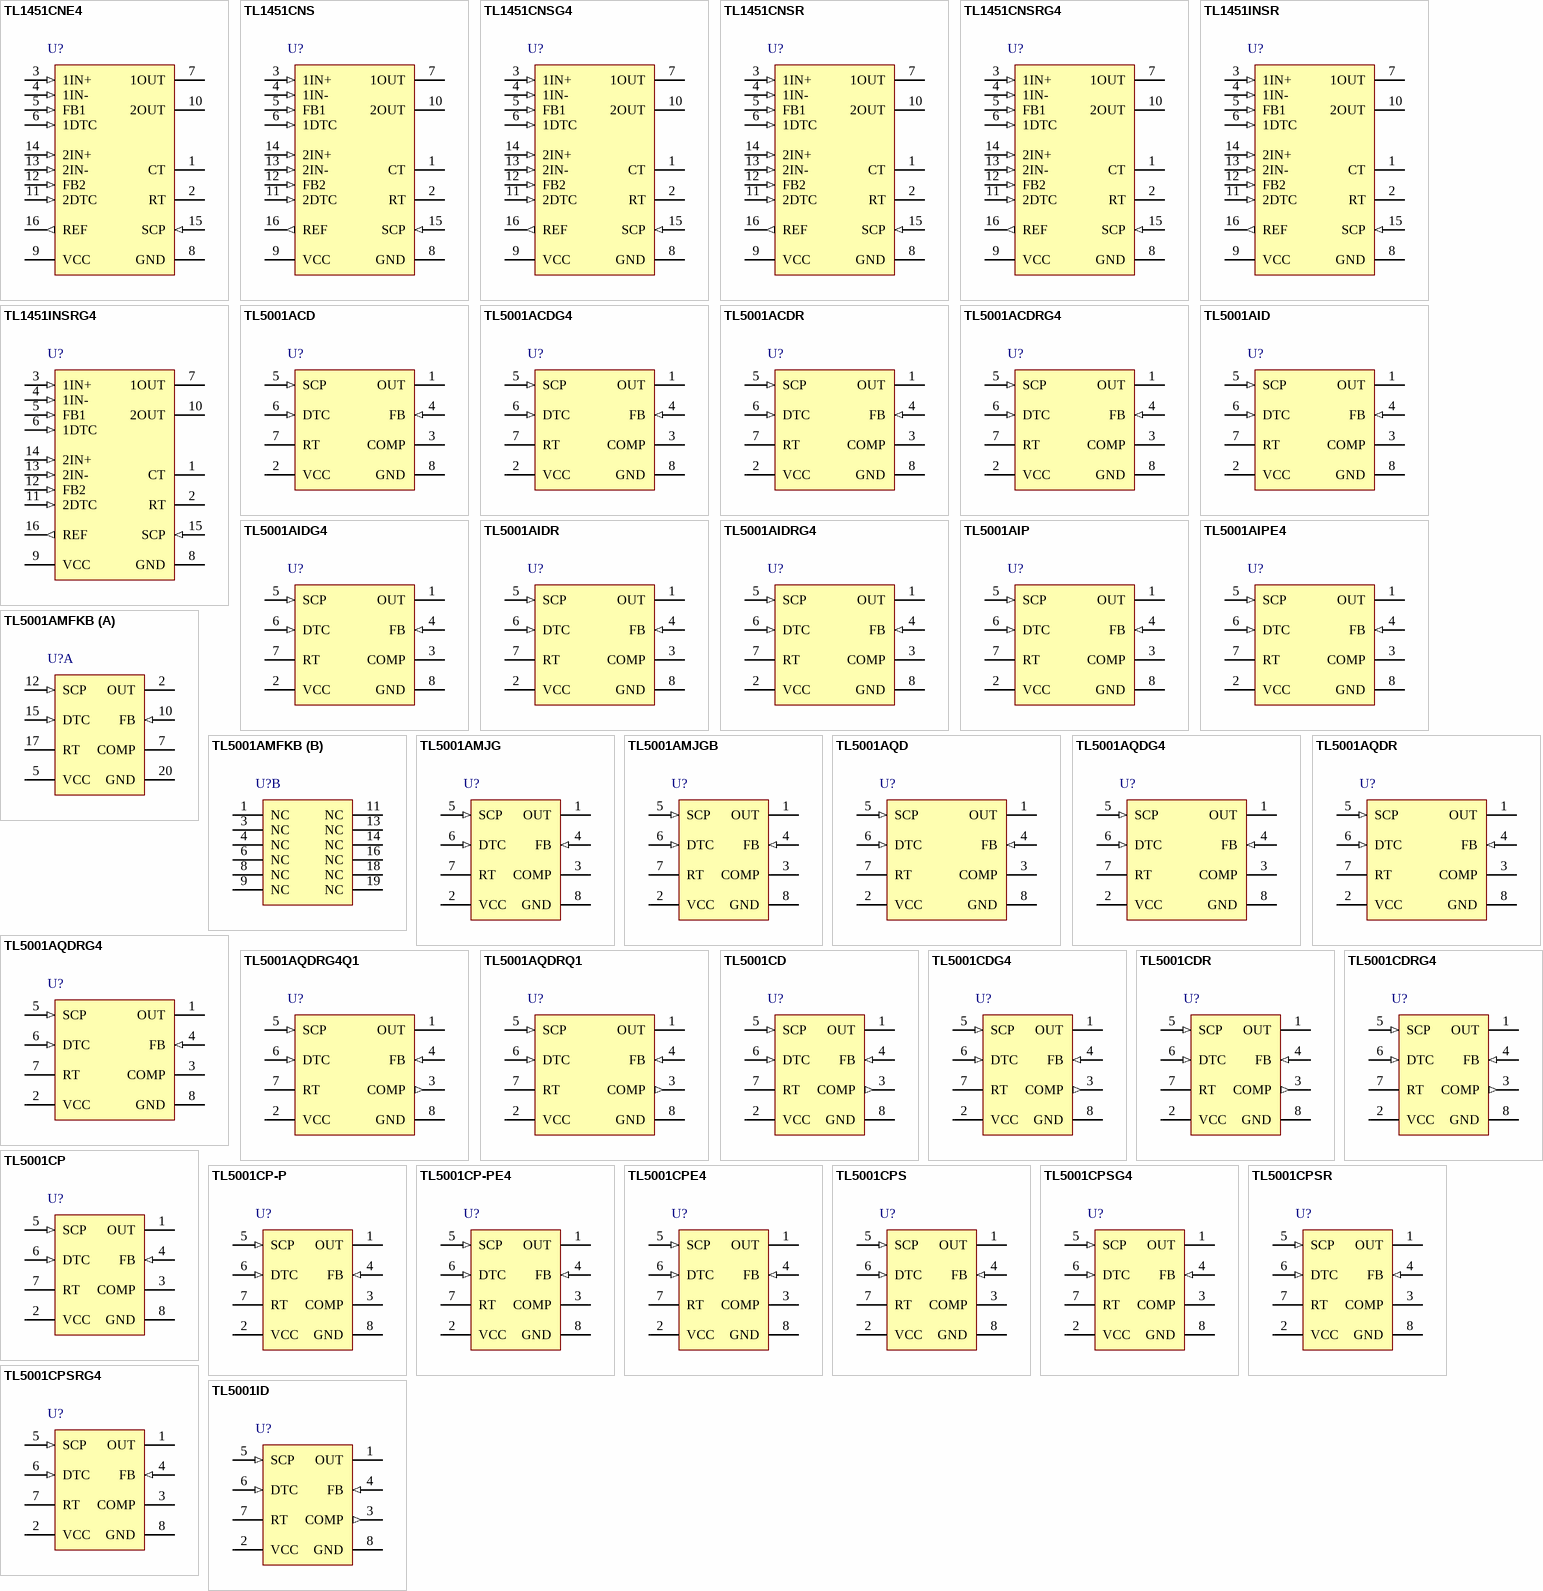
[diagram p1: symbols TL1451CNE4 to TL5001ID]

## TL1451CNE4
designator U?
Dual Pulse-Width-Modulation Control Circuit, 16-pin PDIP (N), Pb-Free (RoHS); Manufacturer: Texas Instruments; PartNumber: TL1451CNE4; SubFamily: Multiple-Output Switching Controller; DatasheetVersion: SLVS024E; PackageVersion: revE, Dec-2001; PackageReference: DB16; PackageDescription: 16-Pin Plastic Small Outline Package, 6.2 x 5.3 mm Body, 0.65 mm Pitch; Supplier 1: Digi-Key; Supplier Part Number 1: TL1451CNE4-ND; Eco-Plan: Pb-Free (RoHS); Mounting Technology: Surface Mount; Code_JEDEC: MO-150; ComponentLink1Description: Datasheet; ComponentLink1URL: http://www.ti.com/general/docs/lit/getliterature.tsp?genericPartNumber=TL1451&fileType=pdf; ComponentLink2Description: Package Specification; ComponentLink2URL: http://www.ti.com/litv/pdf/msso002e
footprint DB16_N (SOP, 16-Leads, Body 6.2x5.3mm, Pitch 0.65mm, IPC Medium Density)
footprint DB16_L (SOP, 16-Leads, Body 6.2x5.3mm, Pitch 0.65mm, IPC High Density)
footprint DB16_M (SOP, 16-Leads, Body 6.2x5.3mm, Pitch 0.65mm, IPC Low Density)
pins: 1 CT, 2 RT, 3 1IN+ (in), 4 1IN- (in), 5 FB1 (in), 6 1DTC (in), 7 1OUT (oc), 8 GND (power), 9 VCC (power), 10 2OUT (oc), 11 2DTC (in), 12 FB2 (in), 13 2IN- (in), 14 2IN+ (in), 15 SCP (in), 16 REF (out)

## TL1451CNS
designator U?
Dual Pulse-Width-Modulation Control Circuit, 16-pin SO (NS), Green (RoHS & no Sb/Br); Manufacturer: Texas Instruments; PartNumber: TL1451CNS; SubFamily: Multiple-Output Switching Controller; DatasheetVersion: SLVS024E; PackageVersion: revC, Mar-2003; PackageReference: NS16; PackageDescription: 16-Pin Plastic Small Outline Package, 10.2 x 5.3 mm, Pitch 1.27 mm Pitch; Supplier 1: Digi-Key; Supplier Part Number 1: 296-31944-5-ND; Eco-Plan: Green (RoHS & no Sb/Br); Mounting Technology: Surface Mount; ComponentLink1Description: Datasheet; ComponentLink1URL: http://www.ti.com/general/docs/lit/getliterature.tsp?genericPartNumber=TL1451&fileType=pdf; ComponentLink2Description: Package Specification; ComponentLink2URL: http://www.ti.com/litv/pdf/msop002a
footprint NS16_N (SOP, 16-Leads, Body 10.2x5.3mm, Pitch 1.27mm, IPC Medium Density)
footprint NS16_L (SOP, 16-Leads, Body 10.2x5.3mm, Pitch 1.27mm, IPC High Density)
footprint NS16_M (SOP, 16-Leads, Body 10.2x5.3mm, Pitch 1.27mm, IPC Low Density)
pins: 1 CT, 2 RT, 3 1IN+ (in), 4 1IN- (in), 5 FB1 (in), 6 1DTC (in), 7 1OUT (oc), 8 GND (power), 9 VCC (power), 10 2OUT (oc), 11 2DTC (in), 12 FB2 (in), 13 2IN- (in), 14 2IN+ (in), 15 SCP (in), 16 REF (out)

## TL1451CNSG4
designator U?
Dual Pulse-Width-Modulation Control Circuit, 16-pin SO (NS), Green (RoHS & no Sb/Br); Manufacturer: Texas Instruments; PartNumber: TL1451CNSG4; SubFamily: Multiple-Output Switching Controller; DatasheetVersion: SLVS024E; PackageVersion: revC, Mar-2003; PackageReference: NS16; PackageDescription: 16-Pin Plastic Small Outline Package, 10.2 x 5.3 mm, Pitch 1.27 mm Pitch; Supplier 1: Digi-Key; Supplier Part Number 1: TL1451CNSG4-ND; Eco-Plan: Green (RoHS & no Sb/Br); Mounting Technology: Surface Mount; ComponentLink1Description: Datasheet; ComponentLink1URL: http://www.ti.com/general/docs/lit/getliterature.tsp?genericPartNumber=TL1451&fileType=pdf; ComponentLink2Description: Package Specification; ComponentLink2URL: http://www.ti.com/litv/pdf/msop002a
footprint NS16_N (SOP, 16-Leads, Body 10.2x5.3mm, Pitch 1.27mm, IPC Medium Density)
footprint NS16_L (SOP, 16-Leads, Body 10.2x5.3mm, Pitch 1.27mm, IPC High Density)
footprint NS16_M (SOP, 16-Leads, Body 10.2x5.3mm, Pitch 1.27mm, IPC Low Density)
pins: 1 CT, 2 RT, 3 1IN+ (in), 4 1IN- (in), 5 FB1 (in), 6 1DTC (in), 7 1OUT (oc), 8 GND (power), 9 VCC (power), 10 2OUT (oc), 11 2DTC (in), 12 FB2 (in), 13 2IN- (in), 14 2IN+ (in), 15 SCP (in), 16 REF (out)

## TL1451CNSR
designator U?
Dual Pulse-Width-Modulation Control Circuit, 16-pin SO (NS), Green (RoHS & no Sb/Br); Manufacturer: Texas Instruments; PartNumber: TL1451CNSR; SubFamily: Multiple-Output Switching Controller; DatasheetVersion: SLVS024E; PackageVersion: revC, Mar-2003; PackageReference: NS16; PackageDescription: 16-Pin Plastic Small Outline Package, 10.2 x 5.3 mm, Pitch 1.27 mm Pitch; Supplier 1: Digi-Key; Supplier Part Number 1: TL1451CNSR-ND; Eco-Plan: Green (RoHS & no Sb/Br); Mounting Technology: Surface Mount; ComponentLink1Description: Datasheet; ComponentLink1URL: http://www.ti.com/general/docs/lit/getliterature.tsp?genericPartNumber=TL1451&fileType=pdf; ComponentLink2Description: Package Specification; ComponentLink2URL: http://www.ti.com/litv/pdf/msop002a
footprint NS16_N (SOP, 16-Leads, Body 10.2x5.3mm, Pitch 1.27mm, IPC Medium Density)
footprint NS16_L (SOP, 16-Leads, Body 10.2x5.3mm, Pitch 1.27mm, IPC High Density)
footprint NS16_M (SOP, 16-Leads, Body 10.2x5.3mm, Pitch 1.27mm, IPC Low Density)
pins: 1 CT, 2 RT, 3 1IN+ (in), 4 1IN- (in), 5 FB1 (in), 6 1DTC (in), 7 1OUT (oc), 8 GND (power), 9 VCC (power), 10 2OUT (oc), 11 2DTC (in), 12 FB2 (in), 13 2IN- (in), 14 2IN+ (in), 15 SCP (in), 16 REF (out)

## TL1451CNSRG4
designator U?
Dual Pulse-Width-Modulation Control Circuit, 16-pin SO (NS), Green (RoHS & no Sb/Br); Manufacturer: Texas Instruments; PartNumber: TL1451CNSRG4; SubFamily: Multiple-Output Switching Controller; DatasheetVersion: SLVS024E; PackageVersion: revC, Mar-2003; PackageReference: NS16; PackageDescription: 16-Pin Plastic Small Outline Package, 10.2 x 5.3 mm, Pitch 1.27 mm Pitch; Supplier 1: Digi-Key; Supplier Part Number 1: TL1451CNSRG4-ND; Eco-Plan: Green (RoHS & no Sb/Br); Mounting Technology: Surface Mount; ComponentLink1Description: Datasheet; ComponentLink1URL: http://www.ti.com/general/docs/lit/getliterature.tsp?genericPartNumber=TL1451&fileType=pdf; ComponentLink2Description: Package Specification; ComponentLink2URL: http://www.ti.com/litv/pdf/msop002a
footprint NS16_N (SOP, 16-Leads, Body 10.2x5.3mm, Pitch 1.27mm, IPC Medium Density)
footprint NS16_L (SOP, 16-Leads, Body 10.2x5.3mm, Pitch 1.27mm, IPC High Density)
footprint NS16_M (SOP, 16-Leads, Body 10.2x5.3mm, Pitch 1.27mm, IPC Low Density)
pins: 1 CT, 2 RT, 3 1IN+ (in), 4 1IN- (in), 5 FB1 (in), 6 1DTC (in), 7 1OUT (oc), 8 GND (power), 9 VCC (power), 10 2OUT (oc), 11 2DTC (in), 12 FB2 (in), 13 2IN- (in), 14 2IN+ (in), 15 SCP (in), 16 REF (out)